# EAGLE library part AT45DB642D- (library Memory)
Atmel AT45DB642D Flash Memory IC FLASH 64MBIT 66MHZ 2.7v Dual-interface DataFlash -CN = 8-lead, 6 x 8 mm CASON
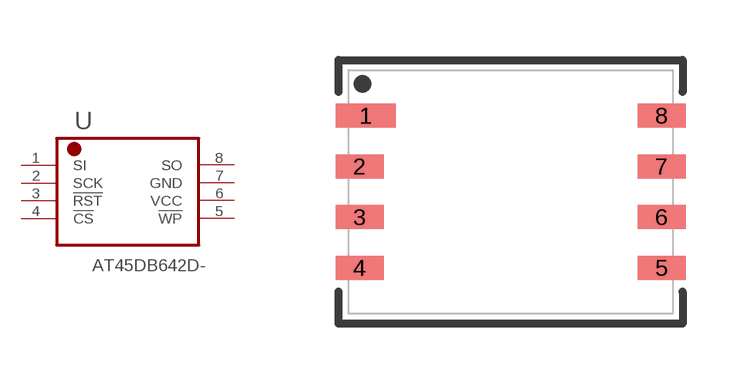
[diagram p1: symbol with the pads of 8-CASON; footprint 8-CASON]

Designator prefix U

## AT45DB642D-CN  [8-CASON]
1  SI  in
2  SCK  in
3  !RST  in
4  !CS  in
5  !WP  in
6  VCC  pwr
7  GND  pwr
8  SO  out

## Footprint 8-CASON (pad centres in mm)
smd 1.5 x 0.6: 1 -3.625,1.905
smd 1.2 x 0.6: 2 -3.775,0.635; 3 -3.775,-0.635; 4 -3.775,-1.905; 5 3.775,-1.905; 6 3.775,-0.635; 7 3.775,0.635; 8 3.775,1.905